# EAGLE library part FET-N-DOUBLE (library Namenlos)
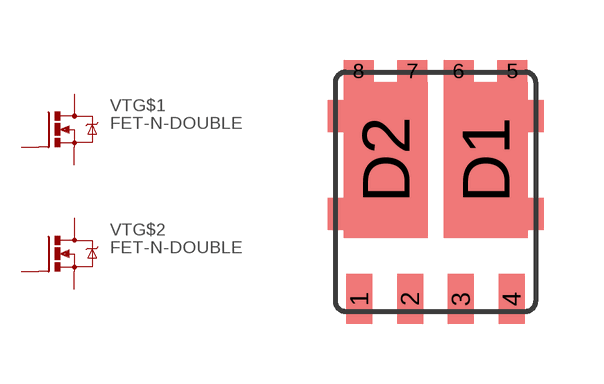
[diagram p20: symbol with the pads of POWERFLAT-5X6-2; footprint POWERFLAT-5X6-2]

Designator prefix VT; gates G$1=FET-N G$2=FET-N

## FET-N-DOUBLESTL40DN3LLH5  [POWERFLAT-5X6-2]
1  G$2:S  pas
2  G$2:G  pas
3  G$1:S  pas
4  G$1:G  pas
5  G$1:D  pas
6  G$1:D  pas
7  G$2:D  pas
8  G$2:D  pas

## Footprint POWERFLAT-5X6-2 (pad centres in mm)
smd 0.65 x 1.25: 1 -1.905,-2.685; 2 -0.635,-2.685; 3 0.635,-2.685; 4 1.905,-2.685
smd 0.75 x 0.55: 5 1.924,3.026; 6 0.576,3.025; 7 -0.576,3.026; 8 -1.925,3.026
smd 2.1 x 3.9: D1 1.25,0.8; D2 -1.25,0.8